# Altium integrated library Micron Memory DDR3 SDRAM.IntLib: 123 symbols (part 17 of 37)
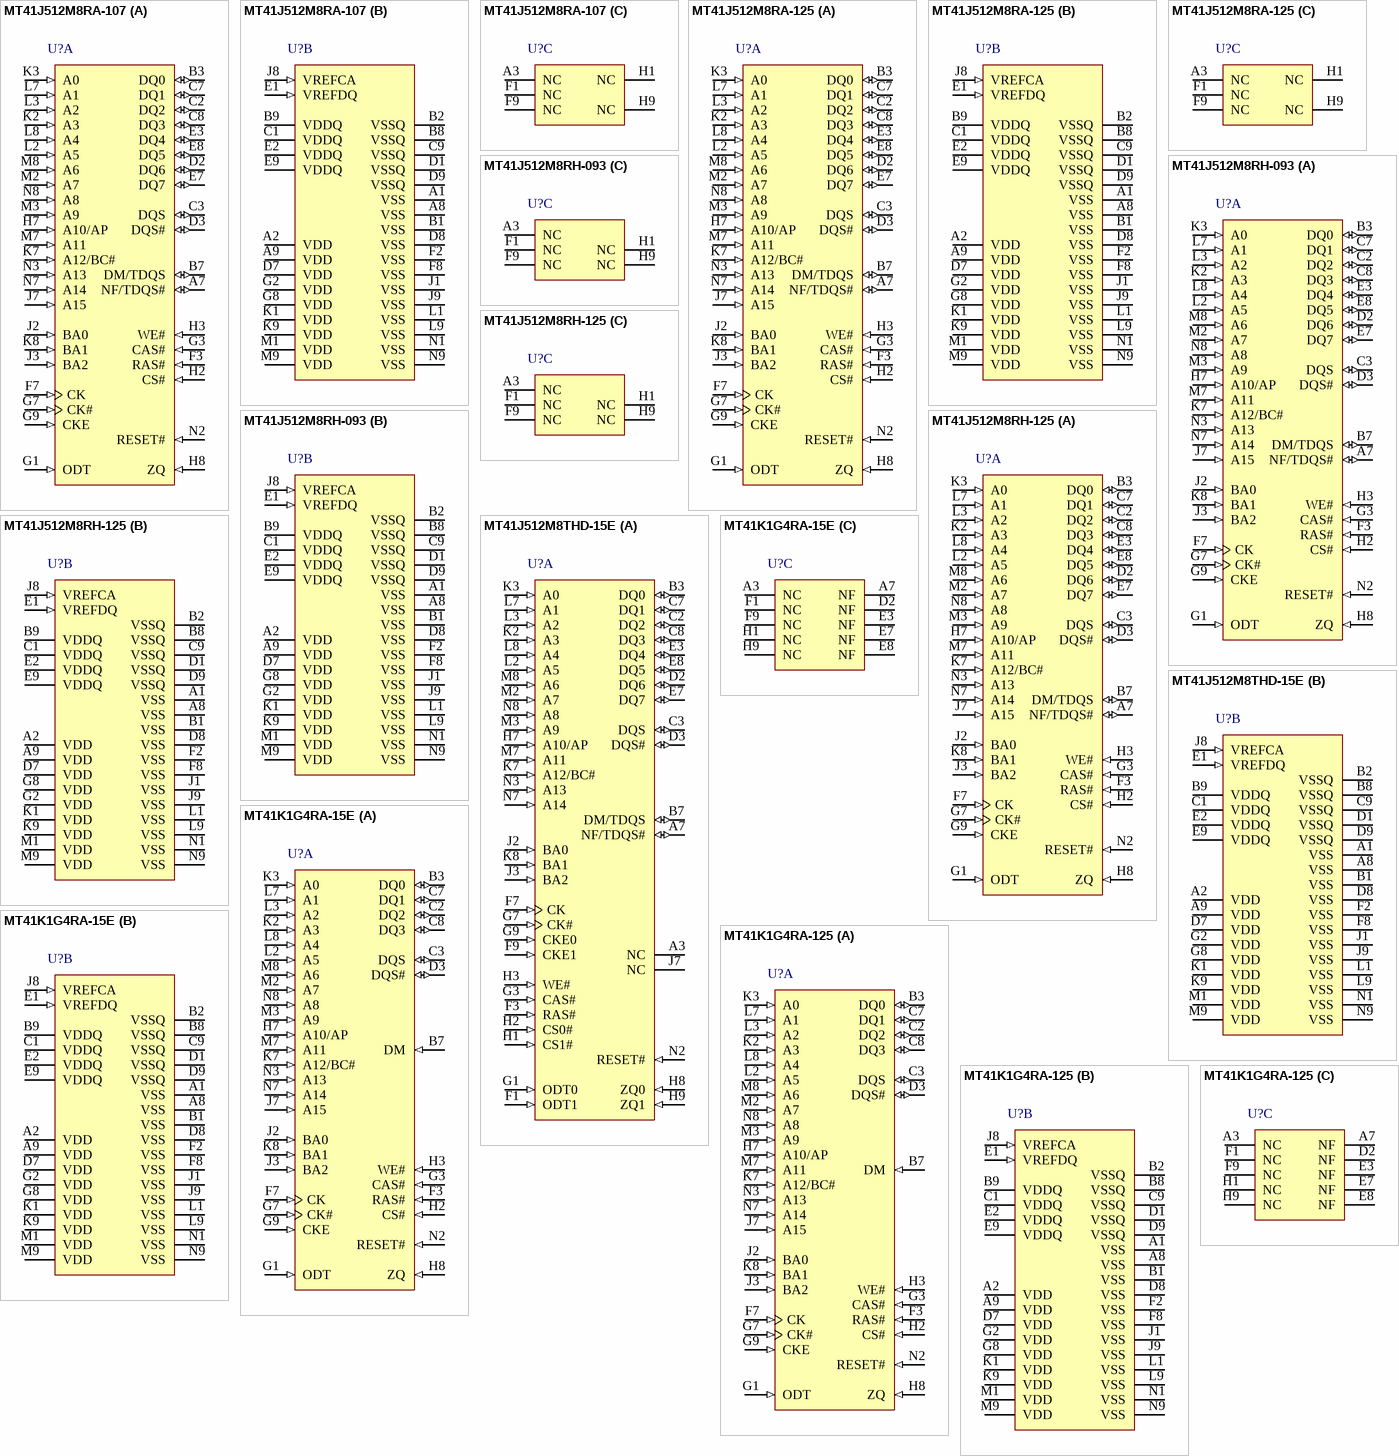
[diagram p34: symbols MT41J512M8RA-107 to MT41K1G4RA-125]

## MT41J512M8RA-107
designator U?
4Gb DDR3-1866 SDRAM, 512Mb x 8, 1.071ns, 1.5V, 0 to 95 degC, 78-Ball FBGA, Pb-Free; Manufacturer: Micron; PartNumber: MT41J512M8RA-107; CL: CL = 13; Clock Rate: 933 MHz; Op. Temp.: 0C to +95C; DatasheetVersion: Rev.J; PackageReference: MICT-RA-78; PackageDescription: 78-Ball Fine-Pitch Ball Grid Array, 12 x 10.5 mm, Pitch 0.8 mm; Cycle Time: 1.071ns; Data Rate: DDR3-1866; Density: 4Gb; Depth: 512Mb; Package: FBGA; Pin Count: 78-ball; RoHS: Yes; Voltage: 1.5V; Width: x8; Mounting Technology: Surface Mount; ComponentLink1Description: Manufacturer URL; ComponentLink1URL: http://www.micron.com/; ComponentLink2Description: Datasheet; ComponentLink2URL: http://www.micron.com/~/media/Documents/Products/Data%20Sheet/DRAM/4Gb_DDR3_SDRAM.pdf; ComponentLink3Description: Package Specification; ComponentLink3URL: http://www.micron.com/~/media/Documents/Products/Data%20Sheet/DRAM/4Gb_1_35V_DDR3L-RS.pdf
footprint MICT-RA-78 (BGA, 78-Balls, Body 12x10.5mm, Pitch 0.8mm)
part A pins: A7 NF/TDQS# (io) "Termination data strobe: Applies to the x8 configuration only. When TDQS is enabled, DM is disabled, and the TDQS and TDQS# balls provide termination resistance.", B3 DQ0 (io) "Data input/output: Bidirectional data bus for the x8 configuration. DQ[7:0] are referenced to VREFDQ.", B7 DM/TDQS (io) "Input data mask: DM is an input mask signal for write data. Input data is masked when DM is sampled HIGH along with the input data during a write access. Although the DM ball is input-only, the DM loading is designed to (See Datasheet)", C2 DQ2 (io) "Data input/output: Bidirectional data bus for the x8 configuration. DQ[7:0] are referenced to VREFDQ.", C3 DQS (io) "Data strobe: Output with read data. Edge-aligned with read data. Input with write data. Center-aligned to write data.", C7 DQ1 (io) "Data input/output: Bidirectional data bus for the x8 configuration. DQ[7:0] are referenced to VREFDQ.", C8 DQ3 (io) "Data input/output: Bidirectional data bus for the x8 configuration. DQ[7:0] are referenced to VREFDQ.", D2 DQ6 (io) "Data input/output: Bidirectional data bus for the x8 configuration. DQ[7:0] are referenced to VREFDQ.", D3 DQS# (io) "Data strobe: Output with read data. Edge-aligned with read data. Input with write data. Center-aligned to write data.", E3 DQ4 (io) "Data input/output: Bidirectional data bus for the x8 configuration. DQ[7:0] are referenced to VREFDQ.", E7 DQ7 (io) "Data input/output: Bidirectional data bus for the x8 configuration. DQ[7:0] are referenced to VREFDQ.", E8 DQ5 (io) "Data input/output: Bidirectional data bus for the x8 configuration. DQ[7:0] are referenced to VREFDQ.", F3 RAS# (in) "Command inputs: RAS#, CAS#, and WE# (along with CS#) define the command being entered and are referenced to VREFCA.", F7 CK (in) "Clock: CK and CK# are differential clock inputs. All control and address input signals are sampled on the crossing of the positive edge of CK and the negative edge of CK#. Output data strobe (DQS, DQS#) is referenced to the (See Datasheet)", G1 ODT (in) "On-die termination: ODT enables (registered HIGH) and disables (registered LOW) termination resistance internal to the DDR3 SDRAM. When enabled in normal operation, ODT is only applied to each of the following balls: (See Datasheet)", G3 CAS# (in) "Command inputs: RAS#, CAS#, and WE# (along with CS#) define the command being entered and are referenced to VREFCA.", G7 CK# (in) "Clock: CK and CK# are differential clock inputs. All control and address input signals are sampled on the crossing of the positive edge of CK and the negative edge of CK#. Output data strobe (DQS, DQS#) is referenced to the (See Datasheet)", G9 CKE (in) "Clock enable: CKE enables (registered HIGH) and disables (registered LOW) internal circuitry and clocks on the DRAM. The specific circuitry that is enabled/ disabled is dependent upon the DDR3 SDRAM configuration and (See Datasheet)", H2 CS# (in) "Chip select: CS# enables (registered LOW) and disables (registered HIGH) the command decoder. All commands are masked when CS# is registered HIGH. CS# provides for external rank selection on systems with multiple ranks. CS# (See Datasheet)", H3 WE# (in) "Command inputs: RAS#, CAS#, and WE# (along with CS#) define the command being entered and are referenced to VREFCA.", H7 A10/AP (in) "Address inputs: Provide the row address for ACTIVATE commands, and the column address and auto precharge bit (A10) for READ/WRITE commands, to select one location out of the memory array in the respective bank. A10 sampled (See Datasheet)", H8 ZQ (in) "External reference ball for output drive calibration: This ball is tied to an external 240ohm resistor (RZQ), which is tied to VSSQ.", J2 BA0 (in) "Bank address inputs: BA[2:0] define the bank to which an ACTIVATE, READ, WRITE, or PRECHARGE command is being applied. BA[2:0] define which mode register (MR0, MR1, MR2, or MR3) is loaded during the LOAD MODE command. (See Datasheet)", J3 BA2 (in) "Bank address inputs: BA[2:0] define the bank to which an ACTIVATE, READ, WRITE, or PRECHARGE command is being applied. BA[2:0] define which mode register (MR0, MR1, MR2, or MR3) is loaded during the LOAD MODE command. (See Datasheet)", J7 A15 (in) "Address inputs: Provide the row address for ACTIVATE commands, and the column address and auto precharge bit (A10) for READ/WRITE commands, to select one location out of the memory array in the respective bank. A10 sampled (See Datasheet)", K2 A3 (in) "Address inputs: Provide the row address for ACTIVATE commands, and the column address and auto precharge bit (A10) for READ/WRITE commands, to select one location out of the memory array in the respective bank. A10 sampled (See Datasheet)", K3 A0 (in) "Address inputs: Provide the row address for ACTIVATE commands, and the column address and auto precharge bit (A10) for READ/WRITE commands, to select one location out of the memory array in the respective bank. A10 sampled (See Datasheet)", K7 A12/BC# (in) "Address inputs: Provide the row address for ACTIVATE commands, and the column address and auto precharge bit (A10) for READ/WRITE commands, to select one location out of the memory array in the respective bank. A10 sampled (See Datasheet)", K8 BA1 (in) "Bank address inputs: BA[2:0] define the bank to which an ACTIVATE, READ, WRITE, or PRECHARGE command is being applied. BA[2:0] define which mode register (MR0, MR1, MR2, or MR3) is loaded during the LOAD MODE command. (See Datasheet)", L2 A5 (in) "Address inputs: Provide the row address for ACTIVATE commands, and the column address and auto precharge bit (A10) for READ/WRITE commands, to select one location out of the memory array in the respective bank. A10 sampled (See Datasheet)", L3 A2 (in) "Address inputs: Provide the row address for ACTIVATE commands, and the column address and auto precharge bit (A10) for READ/WRITE commands, to select one location out of the memory array in the respective bank. A10 sampled (See Datasheet)", L7 A1 (in) "Address inputs: Provide the row address for ACTIVATE commands, and the column address and auto precharge bit (A10) for READ/WRITE commands, to select one location out of the memory array in the respective bank. A10 sampled (See Datasheet)", L8 A4 (in) "Address inputs: Provide the row address for ACTIVATE commands, and the column address and auto precharge bit (A10) for READ/WRITE commands, to select one location out of the memory array in the respective bank. A10 sampled (See Datasheet)", M2 A7 (in) "Address inputs: Provide the row address for ACTIVATE commands, and the column address and auto precharge bit (A10) for READ/WRITE commands, to select one location out of the memory array in the respective bank. A10 sampled (See Datasheet)", M3 A9 (in) "Address inputs: Provide the row address for ACTIVATE commands, and the column address and auto precharge bit (A10) for READ/WRITE commands, to select one location out of the memory array in the respective bank. A10 sampled (See Datasheet)", M7 A11 (in) "Address inputs: Provide the row address for ACTIVATE commands, and the column address and auto precharge bit (A10) for READ/WRITE commands, to select one location out of the memory array in the respective bank. A10 sampled (See Datasheet)", M8 A6 (in) "Address inputs: Provide the row address for ACTIVATE commands, and the column address and auto precharge bit (A10) for READ/WRITE commands, to select one location out of the memory array in the respective bank. A10 sampled (See Datasheet)", N2 RESET# (in) "Reset: RESET# is an active LOW CMOS input referenced to VSS . The RESET# input receiver is a CMOS input defined as a rail-to-rail signal with DC HIGH >= 0.8 x VDD and DC LOW =< 0.2 x VDDQ. RESET# assertion and desertion are (See Datasheet)", N3 A13 (in) "Address inputs: Provide the row address for ACTIVATE commands, and the column address and auto precharge bit (A10) for READ/WRITE commands, to select one location out of the memory array in the respective bank. A10 sampled (See Datasheet)", N7 A14 (in) "Address inputs: Provide the row address for ACTIVATE commands, and the column address and auto precharge bit (A10) for READ/WRITE commands, to select one location out of the memory array in the respective bank. A10 sampled (See Datasheet)", N8 A8 (in) "Address inputs: Provide the row address for ACTIVATE commands, and the column address and auto precharge bit (A10) for READ/WRITE commands, to select one location out of the memory array in the respective bank. A10 sampled (See Datasheet)"
part B pins: A1 VSS (power) "Ground.", A2 VDD (power) "Power supply: 1.5V +/-0.075V.", A8 VSS (power) "Ground.", A9 VDD (power) "Power supply: 1.5V +/-0.075V.", B1 VSS (power) "Ground.", B2 VSSQ (power) "DQ ground: Isolated on the device for improved noise immunity", B8 VSSQ (power) "DQ ground: Isolated on the device for improved noise immunity", B9 VDDQ (power) "DQ power supply: 1.5V +/-0.075V. Isolated on the device for improved noise immunity.", C1 VDDQ (power) "DQ power supply: 1.5V +/-0.075V. Isolated on the device for improved noise immunity.", C9 VSSQ (power) "DQ ground: Isolated on the device for improved noise immunity", D1 VSSQ (power) "DQ ground: Isolated on the device for improved noise immunity", D7 VDD (power) "Power supply: 1.5V +/-0.075V.", D8 VSS (power) "Ground.", D9 VSSQ (power) "DQ ground: Isolated on the device for improved noise immunity", E1 VREFDQ (in) "Reference voltage for data: VREFDQ must be maintained at all times (excluding self refresh) for proper device operation.", E2 VDDQ (power) "DQ power supply: 1.5V +/-0.075V. Isolated on the device for improved noise immunity.", E9 VDDQ (power) "DQ power supply: 1.5V +/-0.075V. Isolated on the device for improved noise immunity.", F2 VSS (power) "Ground.", F8 VSS (power) "Ground.", G2 VDD (power) "Power supply: 1.5V +/-0.075V.", G8 VDD (power) "Power supply: 1.5V +/-0.075V.", J1 VSS (power) "Ground.", J8 VREFCA (in) "Reference voltage for control, command, and address: VREFCA must be maintained at all times (including self refresh) for proper device operation.", J9 VSS (power) "Ground.", K1 VDD (power) "Power supply: 1.5V +/-0.075V.", K9 VDD (power) "Power supply: 1.5V +/-0.075V.", L1 VSS (power) "Ground.", L9 VSS (power) "Ground.", M1 VDD (power) "Power supply: 1.5V +/-0.075V.", M9 VDD (power) "Power supply: 1.5V +/-0.075V.", N1 VSS (power) "Ground.", N9 VSS (power) "Ground."
part C pins: A3 NC "No connect: These balls should be left unconnected (the ball has no connection to the DRAM or to other balls).", F1 NC "No connect: These balls should be left unconnected (the ball has no connection to the DRAM or to other balls).", F9 NC "No connect: These balls should be left unconnected (the ball has no connection to the DRAM or to other balls).", H1 NC "No connect: These balls should be left unconnected (the ball has no connection to the DRAM or to other balls).", H9 NC "No connect: These balls should be left unconnected (the ball has no connection to the DRAM or to other balls)."

## MT41J512M8RA-125
designator U?
4Gb DDR3-1600 SDRAM, 512Mb x 8, 1.25ns, 1.5V, 0 to 95 degC, 78-Ball FBGA, Pb-Free; Manufacturer: Micron; PartNumber: MT41J512M8RA-125; CL: CL = 11; Clock Rate: 800 MHz; Op. Temp.: 0C to +95C; DatasheetVersion: Rev.J; PackageReference: MICT-RA-78; PackageDescription: 78-Ball Fine-Pitch Ball Grid Array, 12 x 10.5 mm, Pitch 0.8 mm; Cycle Time: 1.25ns; Data Rate: DDR3-1600; Density: 4Gb; Depth: 512Mb; Package: FBGA; Pin Count: 78-ball; RoHS: Yes; Voltage: 1.5V; Width: x8; Mounting Technology: Surface Mount; ComponentLink1Description: Manufacturer URL; ComponentLink1URL: http://www.micron.com/; ComponentLink2Description: Datasheet; ComponentLink2URL: http://www.micron.com/~/media/Documents/Products/Data%20Sheet/DRAM/4Gb_DDR3_SDRAM.pdf; ComponentLink3Description: Package Specification; ComponentLink3URL: http://www.micron.com/~/media/Documents/Products/Data%20Sheet/DRAM/4Gb_1_35V_DDR3L-RS.pdf
footprint MICT-RA-78 (BGA, 78-Balls, Body 12x10.5mm, Pitch 0.8mm)
part A pins: A7 NF/TDQS# (io) "Termination data strobe: Applies to the x8 configuration only. When TDQS is enabled, DM is disabled, and the TDQS and TDQS# balls provide termination resistance.", B3 DQ0 (io) "Data input/output: Bidirectional data bus for the x8 configuration. DQ[7:0] are referenced to VREFDQ.", B7 DM/TDQS (io) "Input data mask: DM is an input mask signal for write data. Input data is masked when DM is sampled HIGH along with the input data during a write access. Although the DM ball is input-only, the DM loading is designed to (See Datasheet)", C2 DQ2 (io) "Data input/output: Bidirectional data bus for the x8 configuration. DQ[7:0] are referenced to VREFDQ.", C3 DQS (io) "Data strobe: Output with read data. Edge-aligned with read data. Input with write data. Center-aligned to write data.", C7 DQ1 (io) "Data input/output: Bidirectional data bus for the x8 configuration. DQ[7:0] are referenced to VREFDQ.", C8 DQ3 (io) "Data input/output: Bidirectional data bus for the x8 configuration. DQ[7:0] are referenced to VREFDQ.", D2 DQ6 (io) "Data input/output: Bidirectional data bus for the x8 configuration. DQ[7:0] are referenced to VREFDQ.", D3 DQS# (io) "Data strobe: Output with read data. Edge-aligned with read data. Input with write data. Center-aligned to write data.", E3 DQ4 (io) "Data input/output: Bidirectional data bus for the x8 configuration. DQ[7:0] are referenced to VREFDQ.", E7 DQ7 (io) "Data input/output: Bidirectional data bus for the x8 configuration. DQ[7:0] are referenced to VREFDQ.", E8 DQ5 (io) "Data input/output: Bidirectional data bus for the x8 configuration. DQ[7:0] are referenced to VREFDQ.", F3 RAS# (in) "Command inputs: RAS#, CAS#, and WE# (along with CS#) define the command being entered and are referenced to VREFCA.", F7 CK (in) "Clock: CK and CK# are differential clock inputs. All control and address input signals are sampled on the crossing of the positive edge of CK and the negative edge of CK#. Output data strobe (DQS, DQS#) is referenced to the (See Datasheet)", G1 ODT (in) "On-die termination: ODT enables (registered HIGH) and disables (registered LOW) termination resistance internal to the DDR3 SDRAM. When enabled in normal operation, ODT is only applied to each of the following balls: (See Datasheet)", G3 CAS# (in) "Command inputs: RAS#, CAS#, and WE# (along with CS#) define the command being entered and are referenced to VREFCA.", G7 CK# (in) "Clock: CK and CK# are differential clock inputs. All control and address input signals are sampled on the crossing of the positive edge of CK and the negative edge of CK#. Output data strobe (DQS, DQS#) is referenced to the (See Datasheet)", G9 CKE (in) "Clock enable: CKE enables (registered HIGH) and disables (registered LOW) internal circuitry and clocks on the DRAM. The specific circuitry that is enabled/ disabled is dependent upon the DDR3 SDRAM configuration and (See Datasheet)", H2 CS# (in) "Chip select: CS# enables (registered LOW) and disables (registered HIGH) the command decoder. All commands are masked when CS# is registered HIGH. CS# provides for external rank selection on systems with multiple ranks. CS# (See Datasheet)", H3 WE# (in) "Command inputs: RAS#, CAS#, and WE# (along with CS#) define the command being entered and are referenced to VREFCA.", H7 A10/AP (in) "Address inputs: Provide the row address for ACTIVATE commands, and the column address and auto precharge bit (A10) for READ/WRITE commands, to select one location out of the memory array in the respective bank. A10 sampled (See Datasheet)", H8 ZQ (in) "External reference ball for output drive calibration: This ball is tied to an external 240ohm resistor (RZQ), which is tied to VSSQ.", J2 BA0 (in) "Bank address inputs: BA[2:0] define the bank to which an ACTIVATE, READ, WRITE, or PRECHARGE command is being applied. BA[2:0] define which mode register (MR0, MR1, MR2, or MR3) is loaded during the LOAD MODE command. (See Datasheet)", J3 BA2 (in) "Bank address inputs: BA[2:0] define the bank to which an ACTIVATE, READ, WRITE, or PRECHARGE command is being applied. BA[2:0] define which mode register (MR0, MR1, MR2, or MR3) is loaded during the LOAD MODE command. (See Datasheet)", J7 A15 (in) "Address inputs: Provide the row address for ACTIVATE commands, and the column address and auto precharge bit (A10) for READ/WRITE commands, to select one location out of the memory array in the respective bank. A10 sampled (See Datasheet)", K2 A3 (in) "Address inputs: Provide the row address for ACTIVATE commands, and the column address and auto precharge bit (A10) for READ/WRITE commands, to select one location out of the memory array in the respective bank. A10 sampled (See Datasheet)", K3 A0 (in) "Address inputs: Provide the row address for ACTIVATE commands, and the column address and auto precharge bit (A10) for READ/WRITE commands, to select one location out of the memory array in the respective bank. A10 sampled (See Datasheet)", K7 A12/BC# (in) "Address inputs: Provide the row address for ACTIVATE commands, and the column address and auto precharge bit (A10) for READ/WRITE commands, to select one location out of the memory array in the respective bank. A10 sampled (See Datasheet)", K8 BA1 (in) "Bank address inputs: BA[2:0] define the bank to which an ACTIVATE, READ, WRITE, or PRECHARGE command is being applied. BA[2:0] define which mode register (MR0, MR1, MR2, or MR3) is loaded during the LOAD MODE command. (See Datasheet)", L2 A5 (in) "Address inputs: Provide the row address for ACTIVATE commands, and the column address and auto precharge bit (A10) for READ/WRITE commands, to select one location out of the memory array in the respective bank. A10 sampled (See Datasheet)", L3 A2 (in) "Address inputs: Provide the row address for ACTIVATE commands, and the column address and auto precharge bit (A10) for READ/WRITE commands, to select one location out of the memory array in the respective bank. A10 sampled (See Datasheet)", L7 A1 (in) "Address inputs: Provide the row address for ACTIVATE commands, and the column address and auto precharge bit (A10) for READ/WRITE commands, to select one location out of the memory array in the respective bank. A10 sampled (See Datasheet)", L8 A4 (in) "Address inputs: Provide the row address for ACTIVATE commands, and the column address and auto precharge bit (A10) for READ/WRITE commands, to select one location out of the memory array in the respective bank. A10 sampled (See Datasheet)", M2 A7 (in) "Address inputs: Provide the row address for ACTIVATE commands, and the column address and auto precharge bit (A10) for READ/WRITE commands, to select one location out of the memory array in the respective bank. A10 sampled (See Datasheet)", M3 A9 (in) "Address inputs: Provide the row address for ACTIVATE commands, and the column address and auto precharge bit (A10) for READ/WRITE commands, to select one location out of the memory array in the respective bank. A10 sampled (See Datasheet)", M7 A11 (in) "Address inputs: Provide the row address for ACTIVATE commands, and the column address and auto precharge bit (A10) for READ/WRITE commands, to select one location out of the memory array in the respective bank. A10 sampled (See Datasheet)", M8 A6 (in) "Address inputs: Provide the row address for ACTIVATE commands, and the column address and auto precharge bit (A10) for READ/WRITE commands, to select one location out of the memory array in the respective bank. A10 sampled (See Datasheet)", N2 RESET# (in) "Reset: RESET# is an active LOW CMOS input referenced to VSS . The RESET# input receiver is a CMOS input defined as a rail-to-rail signal with DC HIGH >= 0.8 x VDD and DC LOW =< 0.2 x VDDQ. RESET# assertion and desertion are (See Datasheet)", N3 A13 (in) "Address inputs: Provide the row address for ACTIVATE commands, and the column address and auto precharge bit (A10) for READ/WRITE commands, to select one location out of the memory array in the respective bank. A10 sampled (See Datasheet)", N7 A14 (in) "Address inputs: Provide the row address for ACTIVATE commands, and the column address and auto precharge bit (A10) for READ/WRITE commands, to select one location out of the memory array in the respective bank. A10 sampled (See Datasheet)", N8 A8 (in) "Address inputs: Provide the row address for ACTIVATE commands, and the column address and auto precharge bit (A10) for READ/WRITE commands, to select one location out of the memory array in the respective bank. A10 sampled (See Datasheet)"
part B pins: A1 VSS (power) "Ground.", A2 VDD (power) "Power supply: 1.5V +/-0.075V.", A8 VSS (power) "Ground.", A9 VDD (power) "Power supply: 1.5V +/-0.075V.", B1 VSS (power) "Ground.", B2 VSSQ (power) "DQ ground: Isolated on the device for improved noise immunity", B8 VSSQ (power) "DQ ground: Isolated on the device for improved noise immunity", B9 VDDQ (power) "DQ power supply: 1.5V +/-0.075V. Isolated on the device for improved noise immunity.", C1 VDDQ (power) "DQ power supply: 1.5V +/-0.075V. Isolated on the device for improved noise immunity.", C9 VSSQ (power) "DQ ground: Isolated on the device for improved noise immunity", D1 VSSQ (power) "DQ ground: Isolated on the device for improved noise immunity", D7 VDD (power) "Power supply: 1.5V +/-0.075V.", D8 VSS (power) "Ground.", D9 VSSQ (power) "DQ ground: Isolated on the device for improved noise immunity", E1 VREFDQ (in) "Reference voltage for data: VREFDQ must be maintained at all times (excluding self refresh) for proper device operation.", E2 VDDQ (power) "DQ power supply: 1.5V +/-0.075V. Isolated on the device for improved noise immunity.", E9 VDDQ (power) "DQ power supply: 1.5V +/-0.075V. Isolated on the device for improved noise immunity.", F2 VSS (power) "Ground.", F8 VSS (power) "Ground.", G2 VDD (power) "Power supply: 1.5V +/-0.075V.", G8 VDD (power) "Power supply: 1.5V +/-0.075V.", J1 VSS (power) "Ground.", J8 VREFCA (in) "Reference voltage for control, command, and address: VREFCA must be maintained at all times (including self refresh) for proper device operation.", J9 VSS (power) "Ground.", K1 VDD (power) "Power supply: 1.5V +/-0.075V.", K9 VDD (power) "Power supply: 1.5V +/-0.075V.", L1 VSS (power) "Ground.", L9 VSS (power) "Ground.", M1 VDD (power) "Power supply: 1.5V +/-0.075V.", M9 VDD (power) "Power supply: 1.5V +/-0.075V.", N1 VSS (power) "Ground.", N9 VSS (power) "Ground."
part C pins: A3 NC "No connect: These balls should be left unconnected (the ball has no connection to the DRAM or to other balls).", F1 NC "No connect: These balls should be left unconnected (the ball has no connection to the DRAM or to other balls).", F9 NC "No connect: These balls should be left unconnected (the ball has no connection to the DRAM or to other balls).", H1 NC "No connect: These balls should be left unconnected (the ball has no connection to the DRAM or to other balls).", H9 NC "No connect: These balls should be left unconnected (the ball has no connection to the DRAM or to other balls)."

## MT41J512M8RH-093
designator U?
4Gb DDR3-2133 SDRAM, 512Mb x 8, 938ps, 1.5V, 0 to 95 degC, 78-Ball FBGA, Pb-Free; Manufacturer: Micron; PartNumber: MT41J512M8RH-093; CL: CL = 14; Clock Rate: 1066 MHz; Op. Temp.: 0C to +95C; DatasheetVersion: Rev.J; PackageReference: MICT-RH-78; PackageDescription: 78-Ball Fine-Pitch Ball Grid Array, 10.5 x 9 mm, Pitch 0.8 mm; Cycle Time: 938ps; Data Rate: DDR3-2133; Density: 4Gb; Depth: 512Mb; Package: FBGA; Pin Count: 78-ball; RoHS: Yes; Voltage: 1.5V; Width: x8; Mounting Technology: Surface Mount; ComponentLink1Description: Manufacturer URL; ComponentLink1URL: http://www.micron.com/; ComponentLink2Description: Datasheet; ComponentLink2URL: http://www.micron.com/~/media/Documents/Products/Data%20Sheet/DRAM/4Gb_DDR3_SDRAM.pdf; ComponentLink3Description: Package Specification; ComponentLink3URL: http://www.micron.com/~/media/Documents/Products/Data%20Sheet/DRAM/4Gb_1_35V_DDR3L.pdf
footprint MICT-RH-78 (BGA, 78-Balls, Body 10.5x9mm, Pitch 0.8mm)
part A pins: A7 NF/TDQS# (io) "No function: When configured as a x4 device, these balls are NF. When configured as a x8 device, these balls are defined as TDQS#, DQ[7:4].", B3 DQ0 (io) "Data input/output: Lower byte of bidirectional data bus for the x16 configuration.DQ[7:0] are referenced to VREFDQ.", B7 DM/TDQS (io) "Input data mask: DM is an input mask signal for write data. Input data is masked when DM is sampled HIGH along with the input data during a write access.Although the DM ball is input-only, the DM loading is designed to match (See Datasheet)", C2 DQ2 (io) "Data input/output: Lower byte of bidirectional data bus for the x16 configuration.DQ[7:0] are referenced to VREFDQ.", C3 DQS (io) "Data strobe: Output with read data. Edge-aligned with read data. Input with write data. Center-aligned to write data.", C7 DQ1 (io) "Data input/output: Lower byte of bidirectional data bus for the x16 configuration.DQ[7:0] are referenced to VREFDQ.", C8 DQ3 (io) "Data input/output: Lower byte of bidirectional data bus for the x16 configuration.DQ[7:0] are referenced to VREFDQ.", D2 DQ6 (io) "Data input/output: Lower byte of bidirectional data bus for the x16 configuration.DQ[7:0] are referenced to VREFDQ.", D3 DQS# (io) "Data strobe: Output with read data. Edge-aligned with read data. Input with write data. Center-aligned to write data.", E3 DQ4 (io) "Data input/output: Lower byte of bidirectional data bus for the x16 configuration.DQ[7:0] are referenced to VREFDQ.", E7 DQ7 (io) "Data input/output: Lower byte of bidirectional data bus for the x16 configuration.DQ[7:0] are referenced to VREFDQ.", E8 DQ5 (io) "Data input/output: Lower byte of bidirectional data bus for the x16 configuration.DQ[7:0] are referenced to VREFDQ.", F3 RAS# (in) "Command inputs: RAS#, CAS#, and WE# (along with CS#) define the command being entered and are referenced to VREFCA.", F7 CK (in) "Clock: CK and CK# are differential clock inputs. All control and address input signals are sampled on the crossing of the positive edge of CK and the negative edge of CK#. Output data strobe (DQS, DQS#) is referenced to the (See Datasheet)", G1 ODT (in) "On-die termination: ODT enables (registered HIGH) and disables (registered LOW)termination resistance internal to the DDR3 SDRAM. When enabled in normal operation, ODT is only applied to each of the following balls: DQ[7:0], (See Datasheet)", G3 CAS# (in) "Command inputs: RAS#, CAS#, and WE# (along with CS#) define the command being entered and are referenced to VREFCA.", G7 CK# (in) "Clock: CK and CK# are differential clock inputs. All control and address input signals are sampled on the crossing of the positive edge of CK and the negative edge of CK#. Output data strobe (DQS, DQS#) is referenced to the (See Datasheet)", G9 CKE (in) "Clock enable: CKE enables (registered HIGH) and disables (registered LOW) internal circuitry and clocks on the DRAM. The specific circuitry that is enabled/disabled is dependent upon the DDR3 SDRAM configuration and (See Datasheet)", H2 CS# (in) "Chip select: CS# enables (registered LOW) and disables (registered HIGH) the command decoder. All commands are masked when CS# is registered HIGH. CS# provides for external rank selection on systems with multiple ranks. CS# (See Datasheet)", H3 WE# (in) "Command inputs: RAS#, CAS#, and WE# (along with CS#) define the command being entered and are referenced to VREFCA.", H7 A10/AP (in) "Address inputs: Provide the row address for ACTIVATE commands, and the column address and auto precharge bit (A10) for READ/WRITE commands, to select one location out of the memory array in the respective bank. A10 sampled (See Datasheet)", H8 ZQ (in) "External reference ball for output drive calibration: This ball is tied to an external 240ohm resistor (RZQ), which is tied to VSSQ.", J2 BA0 (in) "Bank address inputs: BA[2:0] define the bank to which an ACTIVATE, READ, WRITE, or PRECHARGE command is being applied. BA[2:0] define which mode register (MR0, MR1, MR2, or MR3) is loaded during the LOAD MODE command. (See Datasheet)", J3 BA2 (in) "Bank address inputs: BA[2:0] define the bank to which an ACTIVATE, READ, WRITE, or PRECHARGE command is being applied. BA[2:0] define which mode register (MR0, MR1, MR2, or MR3) is loaded during the LOAD MODE command. (See Datasheet)", J7 A15 (in) "Address inputs: Provide the row address for ACTIVATE commands, and the column address and auto precharge bit (A10) for READ/WRITE commands, to select one location out of the memory array in the respective bank. A10 sampled (See Datasheet)", K2 A3 (in) "Address inputs: Provide the row address for ACTIVATE commands, and the column address and auto precharge bit (A10) for READ/WRITE commands, to select one location out of the memory array in the respective bank. A10 sampled (See Datasheet)", K3 A0 (in) "Address inputs: Provide the row address for ACTIVATE commands, and the column address and auto precharge bit (A10) for READ/WRITE commands, to select one location out of the memory array in the respective bank. A10 sampled (See Datasheet)", K7 A12/BC# (in) "Address inputs: Provide the row address for ACTIVATE commands, and the column address and auto precharge bit (A10) for READ/WRITE commands, to select one location out of the memory array in the respective bank. A10 sampled (See Datasheet)", K8 BA1 (in) "Bank address inputs: BA[2:0] define the bank to which an ACTIVATE, READ, WRITE, or PRECHARGE command is being applied. BA[2:0] define which mode register (MR0, MR1, MR2, or MR3) is loaded during the LOAD MODE command. (See Datasheet)", L2 A5 (in) "Address inputs: Provide the row address for ACTIVATE commands, and the column address and auto precharge bit (A10) for READ/WRITE commands, to select one location out of the memory array in the respective bank. A10 sampled (See Datasheet)", L3 A2 (in) "Address inputs: Provide the row address for ACTIVATE commands, and the column address and auto precharge bit (A10) for READ/WRITE commands, to select one location out of the memory array in the respective bank. A10 sampled (See Datasheet)", L7 A1 (in) "Address inputs: Provide the row address for ACTIVATE commands, and the column address and auto precharge bit (A10) for READ/WRITE commands, to select one location out of the memory array in the respective bank. A10 sampled (See Datasheet)", L8 A4 (in) "Address inputs: Provide the row address for ACTIVATE commands, and the column address and auto precharge bit (A10) for READ/WRITE commands, to select one location out of the memory array in the respective bank. A10 sampled (See Datasheet)", M2 A7 (in) "Address inputs: Provide the row address for ACTIVATE commands, and the column address and auto precharge bit (A10) for READ/WRITE commands, to select one location out of the memory array in the respective bank. A10 sampled (See Datasheet)", M3 A9 (in) "Address inputs: Provide the row address for ACTIVATE commands, and the column address and auto precharge bit (A10) for READ/WRITE commands, to select one location out of the memory array in the respective bank. A10 sampled (See Datasheet)", M7 A11 (in) "Address inputs: Provide the row address for ACTIVATE commands, and the column address and auto precharge bit (A10) for READ/WRITE commands, to select one location out of the memory array in the respective bank. A10 sampled (See Datasheet)", M8 A6 (in) "Address inputs: Provide the row address for ACTIVATE commands, and the column address and auto precharge bit (A10) for READ/WRITE commands, to select one location out of the memory array in the respective bank. A10 sampled (See Datasheet)", N2 RESET# (in) "Reset: RESET# is an active LOW CMOS input referenced to VSS.The RESET# input receiver is a CMOS input defined as a rail-to-rail signal with DC HIGH >= 0.8 x VDD and DC LOW =< 0.2 x VDDQ. RESET# assertion and desertion are (See Datasheet)", N3 A13 (in) "Address inputs: Provide the row address for ACTIVATE commands, and the column address and auto precharge bit (A10) for READ/WRITE commands, to select one location out of the memory array in the respective bank. A10 sampled (See Datasheet)", N7 A14 (in) "Address inputs: Provide the row address for ACTIVATE commands, and the column address and auto precharge bit (A10) for READ/WRITE commands, to select one location out of the memory array in the respective bank. A10 sampled (See Datasheet)", N8 A8 (in) "Address inputs: Provide the row address for ACTIVATE commands, and the column address and auto precharge bit (A10) for READ/WRITE commands, to select one location out of the memory array in the respective bank. A10 sampled (See Datasheet)"
part B pins: A1 VSS (power) "Ground.", A2 VDD (power) "Power supply: 1.5V +/-0.075V.", A8 VSS (power) "Ground.", A9 VDD (power) "Power supply: 1.5V +/-0.075V.", B1 VSS (power) "Ground.", B2 VSSQ (power) "DQ ground: Isolated on the device for improved noise immunity.", B8 VSSQ (power) "DQ ground: Isolated on the device for improved noise immunity.", B9 VDDQ (power) "DQ power supply: 1.5V +/-0.075V. Isolated on the device for improved noise immunity.", C1 VDDQ (power) "DQ power supply: 1.5V +/-0.075V. Isolated on the device for improved noise immunity.", C9 VSSQ (power) "DQ ground: Isolated on the device for improved noise immunity.", D1 VSSQ (power) "DQ ground: Isolated on the device for improved noise immunity.", D7 VDD (power) "Power supply: 1.5V +/-0.075V.", D8 VSS (power) "Ground.", D9 VSSQ (power) "DQ ground: Isolated on the device for improved noise immunity.", E1 VREFDQ (in) "Reference voltage for data: VREFDQ must be maintained at all times (excluding self refresh) for proper device operation.", E2 VDDQ (power) "DQ power supply: 1.5V +/-0.075V. Isolated on the device for improved noise immunity.", E9 VDDQ (power) "DQ power supply: 1.5V +/-0.075V. Isolated on the device for improved noise immunity.", F2 VSS (power) "Ground.", F8 VSS (power) "Ground.", G2 VDD (power) "Power supply: 1.5V +/-0.075V.", G8 VDD (power) "Power supply: 1.5V +/-0.075V.", J1 VSS (power) "Ground.", J8 VREFCA (in) "Reference voltage for control, command, and address: VREFCA must be maintained at all times (including self refresh) for proper device operation.", J9 VSS (power) "Ground.", K1 VDD (power) "Power supply: 1.5V +/-0.075V.", K9 VDD (power) "Power supply: 1.5V +/-0.075V.", L1 VSS (power) "Ground.", L9 VSS (power) "Ground.", M1 VDD (power) "Power supply: 1.5V +/-0.075V.", M9 VDD (power) "Power supply: 1.5V +/-0.075V.", N1 VSS (power) "Ground.", N9 VSS (power) "Ground."
part C pins: A3 NC "No connect: These balls should be left unconnected (the ball has no connection to the DRAM or to other balls).", F1 NC "No connect: These balls should be left unconnected (the ball has no connection to the DRAM or to other balls).", F9 NC "No connect: These balls should be left unconnected (the ball has no connection to the DRAM or to other balls).", H1 NC "No connect: These balls should be left unconnected (the ball has no connection to the DRAM or to other balls).", H9 NC "No connect: These balls should be left unconnected (the ball has no connection to the DRAM or to other balls)."

## MT41J512M8RH-125
designator U?
4Gb DDR3-1600 SDRAM, 512Mb x 8, 1.25ns, 1.5V, 0 to 95 degC, 78-Ball FBGA, Pb-Free; Manufacturer: Micron; PartNumber: MT41J512M8RH-125; CL: CL = 11; Clock Rate: 800 MHz; Op. Temp.: 0C to +95C; DatasheetVersion: Rev.J; PackageReference: MICT-RH-78; PackageDescription: 78-Ball Fine-Pitch Ball Grid Array, 10.5 x 9 mm, Pitch 0.8 mm; Cycle Time: 1.25ns; Data Rate: DDR3-1600; Density: 4Gb; Depth: 512Mb; Package: FBGA; Pin Count: 78-ball; RoHS: Yes; Voltage: 1.5V; Width: x8; Mounting Technology: Surface Mount; ComponentLink1Description: Manufacturer URL; ComponentLink1URL: http://www.micron.com/; ComponentLink2Description: Datasheet; ComponentLink2URL: http://www.micron.com/~/media/Documents/Products/Data%20Sheet/DRAM/4Gb_DDR3_SDRAM.pdf; ComponentLink3Description: Package Specification; ComponentLink3URL: http://www.micron.com/~/media/Documents/Products/Data%20Sheet/DRAM/4Gb_1_35V_DDR3L.pdf
footprint MICT-RH-78 (BGA, 78-Balls, Body 10.5x9mm, Pitch 0.8mm)
part A pins: A7 NF/TDQS# (io) "No function: When configured as a x4 device, these balls are NF. When configured as a x8 device, these balls are defined as TDQS#, DQ[7:4].", B3 DQ0 (io) "Data input/output: Lower byte of bidirectional data bus for the x16 configuration.DQ[7:0] are referenced to VREFDQ.", B7 DM/TDQS (io) "Input data mask: DM is an input mask signal for write data. Input data is masked when DM is sampled HIGH along with the input data during a write access.Although the DM ball is input-only, the DM loading is designed to match (See Datasheet)", C2 DQ2 (io) "Data input/output: Lower byte of bidirectional data bus for the x16 configuration.DQ[7:0] are referenced to VREFDQ.", C3 DQS (io) "Data strobe: Output with read data. Edge-aligned with read data. Input with write data. Center-aligned to write data.", C7 DQ1 (io) "Data input/output: Lower byte of bidirectional data bus for the x16 configuration.DQ[7:0] are referenced to VREFDQ.", C8 DQ3 (io) "Data input/output: Lower byte of bidirectional data bus for the x16 configuration.DQ[7:0] are referenced to VREFDQ.", D2 DQ6 (io) "Data input/output: Lower byte of bidirectional data bus for the x16 configuration.DQ[7:0] are referenced to VREFDQ.", D3 DQS# (io) "Data strobe: Output with read data. Edge-aligned with read data. Input with write data. Center-aligned to write data.", E3 DQ4 (io) "Data input/output: Lower byte of bidirectional data bus for the x16 configuration.DQ[7:0] are referenced to VREFDQ.", E7 DQ7 (io) "Data input/output: Lower byte of bidirectional data bus for the x16 configuration.DQ[7:0] are referenced to VREFDQ.", E8 DQ5 (io) "Data input/output: Lower byte of bidirectional data bus for the x16 configuration.DQ[7:0] are referenced to VREFDQ.", F3 RAS# (in) "Command inputs: RAS#, CAS#, and WE# (along with CS#) define the command being entered and are referenced to VREFCA.", F7 CK (in) "Clock: CK and CK# are differential clock inputs. All control and address input signals are sampled on the crossing of the positive edge of CK and the negative edge of CK#. Output data strobe (DQS, DQS#) is referenced to the (See Datasheet)", G1 ODT (in) "On-die termination: ODT enables (registered HIGH) and disables (registered LOW)termination resistance internal to the DDR3 SDRAM. When enabled in normal operation, ODT is only applied to each of the following balls: DQ[7:0], (See Datasheet)", G3 CAS# (in) "Command inputs: RAS#, CAS#, and WE# (along with CS#) define the command being entered and are referenced to VREFCA.", G7 CK# (in) "Clock: CK and CK# are differential clock inputs. All control and address input signals are sampled on the crossing of the positive edge of CK and the negative edge of CK#. Output data strobe (DQS, DQS#) is referenced to the (See Datasheet)", G9 CKE (in) "Clock enable: CKE enables (registered HIGH) and disables (registered LOW) internal circuitry and clocks on the DRAM. The specific circuitry that is enabled/disabled is dependent upon the DDR3 SDRAM configuration and (See Datasheet)", H2 CS# (in) "Chip select: CS# enables (registered LOW) and disables (registered HIGH) the command decoder. All commands are masked when CS# is registered HIGH. CS# provides for external rank selection on systems with multiple ranks. CS# (See Datasheet)", H3 WE# (in) "Command inputs: RAS#, CAS#, and WE# (along with CS#) define the command being entered and are referenced to VREFCA.", H7 A10/AP (in) "Address inputs: Provide the row address for ACTIVATE commands, and the column address and auto precharge bit (A10) for READ/WRITE commands, to select one location out of the memory array in the respective bank. A10 sampled (See Datasheet)", H8 ZQ (in) "External reference ball for output drive calibration: This ball is tied to an external 240ohm resistor (RZQ), which is tied to VSSQ.", J2 BA0 (in) "Bank address inputs: BA[2:0] define the bank to which an ACTIVATE, READ, WRITE, or PRECHARGE command is being applied. BA[2:0] define which mode register (MR0, MR1, MR2, or MR3) is loaded during the LOAD MODE command. (See Datasheet)", J3 BA2 (in) "Bank address inputs: BA[2:0] define the bank to which an ACTIVATE, READ, WRITE, or PRECHARGE command is being applied. BA[2:0] define which mode register (MR0, MR1, MR2, or MR3) is loaded during the LOAD MODE command. (See Datasheet)", J7 A15 (in) "Address inputs: Provide the row address for ACTIVATE commands, and the column address and auto precharge bit (A10) for READ/WRITE commands, to select one location out of the memory array in the respective bank. A10 sampled (See Datasheet)", K2 A3 (in) "Address inputs: Provide the row address for ACTIVATE commands, and the column address and auto precharge bit (A10) for READ/WRITE commands, to select one location out of the memory array in the respective bank. A10 sampled (See Datasheet)", K3 A0 (in) "Address inputs: Provide the row address for ACTIVATE commands, and the column address and auto precharge bit (A10) for READ/WRITE commands, to select one location out of the memory array in the respective bank. A10 sampled (See Datasheet)", K7 A12/BC# (in) "Address inputs: Provide the row address for ACTIVATE commands, and the column address and auto precharge bit (A10) for READ/WRITE commands, to select one location out of the memory array in the respective bank. A10 sampled (See Datasheet)", K8 BA1 (in) "Bank address inputs: BA[2:0] define the bank to which an ACTIVATE, READ, WRITE, or PRECHARGE command is being applied. BA[2:0] define which mode register (MR0, MR1, MR2, or MR3) is loaded during the LOAD MODE command. (See Datasheet)", L2 A5 (in) "Address inputs: Provide the row address for ACTIVATE commands, and the column address and auto precharge bit (A10) for READ/WRITE commands, to select one location out of the memory array in the respective bank. A10 sampled (See Datasheet)", L3 A2 (in) "Address inputs: Provide the row address for ACTIVATE commands, and the column address and auto precharge bit (A10) for READ/WRITE commands, to select one location out of the memory array in the respective bank. A10 sampled (See Datasheet)", L7 A1 (in) "Address inputs: Provide the row address for ACTIVATE commands, and the column address and auto precharge bit (A10) for READ/WRITE commands, to select one location out of the memory array in the respective bank. A10 sampled (See Datasheet)", L8 A4 (in) "Address inputs: Provide the row address for ACTIVATE commands, and the column address and auto precharge bit (A10) for READ/WRITE commands, to select one location out of the memory array in the respective bank. A10 sampled (See Datasheet)", M2 A7 (in) "Address inputs: Provide the row address for ACTIVATE commands, and the column address and auto precharge bit (A10) for READ/WRITE commands, to select one location out of the memory array in the respective bank. A10 sampled (See Datasheet)", M3 A9 (in) "Address inputs: Provide the row address for ACTIVATE commands, and the column address and auto precharge bit (A10) for READ/WRITE commands, to select one location out of the memory array in the respective bank. A10 sampled (See Datasheet)", M7 A11 (in) "Address inputs: Provide the row address for ACTIVATE commands, and the column address and auto precharge bit (A10) for READ/WRITE commands, to select one location out of the memory array in the respective bank. A10 sampled (See Datasheet)", M8 A6 (in) "Address inputs: Provide the row address for ACTIVATE commands, and the column address and auto precharge bit (A10) for READ/WRITE commands, to select one location out of the memory array in the respective bank. A10 sampled (See Datasheet)", N2 RESET# (in) "Reset: RESET# is an active LOW CMOS input referenced to VSS.The RESET# input receiver is a CMOS input defined as a rail-to-rail signal with DC HIGH >= 0.8 x VDD and DC LOW =< 0.2 x VDDQ. RESET# assertion and desertion are (See Datasheet)", N3 A13 (in) "Address inputs: Provide the row address for ACTIVATE commands, and the column address and auto precharge bit (A10) for READ/WRITE commands, to select one location out of the memory array in the respective bank. A10 sampled (See Datasheet)", N7 A14 (in) "Address inputs: Provide the row address for ACTIVATE commands, and the column address and auto precharge bit (A10) for READ/WRITE commands, to select one location out of the memory array in the respective bank. A10 sampled (See Datasheet)", N8 A8 (in) "Address inputs: Provide the row address for ACTIVATE commands, and the column address and auto precharge bit (A10) for READ/WRITE commands, to select one location out of the memory array in the respective bank. A10 sampled (See Datasheet)"
part B pins: A1 VSS (power) "Ground.", A2 VDD (power) "Power supply: 1.5V +/-0.075V.", A8 VSS (power) "Ground.", A9 VDD (power) "Power supply: 1.5V +/-0.075V.", B1 VSS (power) "Ground.", B2 VSSQ (power) "DQ ground: Isolated on the device for improved noise immunity.", B8 VSSQ (power) "DQ ground: Isolated on the device for improved noise immunity.", B9 VDDQ (power) "DQ power supply: 1.5V +/-0.075V. Isolated on the device for improved noise immunity.", C1 VDDQ (power) "DQ power supply: 1.5V +/-0.075V. Isolated on the device for improved noise immunity.", C9 VSSQ (power) "DQ ground: Isolated on the device for improved noise immunity.", D1 VSSQ (power) "DQ ground: Isolated on the device for improved noise immunity.", D7 VDD (power) "Power supply: 1.5V +/-0.075V.", D8 VSS (power) "Ground.", D9 VSSQ (power) "DQ ground: Isolated on the device for improved noise immunity.", E1 VREFDQ (in) "Reference voltage for data: VREFDQ must be maintained at all times (excluding self refresh) for proper device operation.", E2 VDDQ (power) "DQ power supply: 1.5V +/-0.075V. Isolated on the device for improved noise immunity.", E9 VDDQ (power) "DQ power supply: 1.5V +/-0.075V. Isolated on the device for improved noise immunity.", F2 VSS (power) "Ground.", F8 VSS (power) "Ground.", G2 VDD (power) "Power supply: 1.5V +/-0.075V.", G8 VDD (power) "Power supply: 1.5V +/-0.075V.", J1 VSS (power) "Ground.", J8 VREFCA (in) "Reference voltage for control, command, and address: VREFCA must be maintained at all times (including self refresh) for proper device operation.", J9 VSS (power) "Ground.", K1 VDD (power) "Power supply: 1.5V +/-0.075V.", K9 VDD (power) "Power supply: 1.5V +/-0.075V.", L1 VSS (power) "Ground.", L9 VSS (power) "Ground.", M1 VDD (power) "Power supply: 1.5V +/-0.075V.", M9 VDD (power) "Power supply: 1.5V +/-0.075V.", N1 VSS (power) "Ground.", N9 VSS (power) "Ground."
part C pins: A3 NC "No connect: These balls should be left unconnected (the ball has no connection to the DRAM or to other balls).", F1 NC "No connect: These balls should be left unconnected (the ball has no connection to the DRAM or to other balls).", F9 NC "No connect: These balls should be left unconnected (the ball has no connection to the DRAM or to other balls).", H1 NC "No connect: These balls should be left unconnected (the ball has no connection to the DRAM or to other balls).", H9 NC "No connect: These balls should be left unconnected (the ball has no connection to the DRAM or to other balls)."